# Altium footprint library LED_0402_GREEN.PcbLib: 1 footprints
Each footprint in its own frame and in the unit in brackets; x right, y up, seen from the top. Pads: shape width x height; smd on the part's side, far side on the other; paste and mask are expansions set on the pad; w line width, h text height; cw(c..) or ccw(c..) is an arc to the next point about the centre after c.
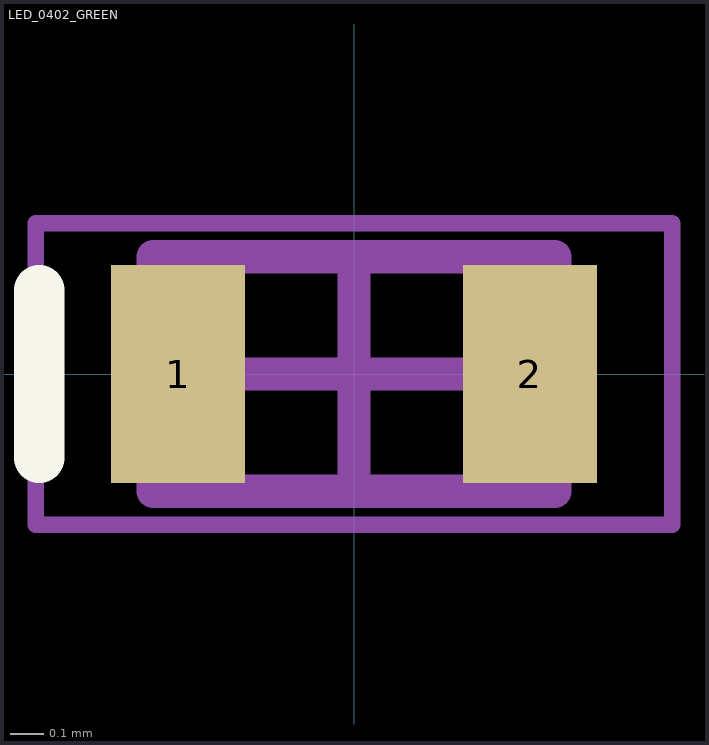
[diagram p0: the footprint, top view; thin cyan lines are the x and y axes]

## LED_0402_GREEN [mm]
height 0.45
pads (2):
  rect 0.4x0.65 smd: 1(-0.525,0) 2(0.525,0)
Top Overlay:
  lines w0.15: -0.94,-0.25 -0.94,0.25
Mechanical 13:
  lines w0.1: -0.6,-0.35 0.6,-0.35 0.6,0.35 -0.6,0.35 -0.6,-0.35
Mechanical 15:
  lines w0.05: -0.95,-0.45 0.95,-0.45 0.95,0.45 -0.95,0.45 -0.95,-0.45
  lines w0.1: -0.35,0 0.35,0 ; 0,-0.35 0,0.35
3D body: height 0.45, standoff 0, extent -0.6,-0.35 -0.4,0.35
3D body: height 0.45, standoff 0, extent 0.4,-0.35 0.6,0.35
3D body: height 0.45, standoff 0, extent -0.4,-0.35 0.4,0.35